# EAGLE library part 93LC56BT-E_OT (library SamacSys_Parts)
Microchip 93LC56BT-E/OT, 2kbit EEPROM Memory, 400ns 6-Pin SOT-23 Serial-Microwire Source: Datasheet <http://ww1.microchip.com/downloads/en/devicedoc/21794g.pdf>
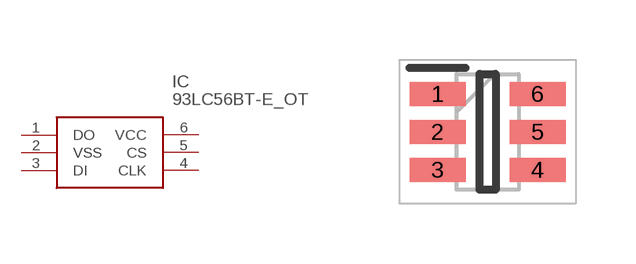
[diagram p2: symbol with the pads of SOT95P270X145-6N; footprint SOT95P270X145-6N]

Designator prefix IC

## 93LC56BT-E_OT (ARROW_PART_NUMBER: 93LC56BT-E/OT; ARROW_PRICE-STOCK: https://www.arrow.com/en/products/93lc56bt-eot/microchip-technology; DESCRIPTION: Microchip 93LC56BT-E/OT, 2kbit EEPROM Memory, 400ns 6-Pin SOT-23 Serial-Microwire; HEIGHT: 1.45mm; MANUFACTURER_NAME: Microchip; MANUFACTURER_PART_NUMBER: 93LC56BT-E/OT; MOUSER_PART_NUMBER: 579-93LC56BT-E/OT; MOUSER_PRICE-STOCK: https://www.mouser.co.uk/ProductDetail/Microchip-Technology/93LC56BT-E-OT?qs=mKuojOqe%252BqOr0HXN84QqHA%3D%3D)  [SOT95P270X145-6N]
1  DO
2  VSS
3  DI
4  CLK
5  CS
6  VCC

## Footprint SOT95P270X145-6N (pad centres in mm)
sot-23
smd 1.4 x 0.6: 1 -1.25,0.95; 2 -1.25,0; 3 -1.25,-0.95; 4 1.25,-0.95; 5 1.25,0; 6 1.25,0.95